# Altium footprint library 06035A6R0JAT2A.PcbLib: 3 footprints
Each footprint in its own frame and in the unit in brackets; x right, y up, seen from the top. Pads: shape width x height; smd on the part's side, far side on the other; paste and mask are expansions set on the pad; w line width, h text height; cw(c..) or ccw(c..) is an arc to the next point about the centre after c.
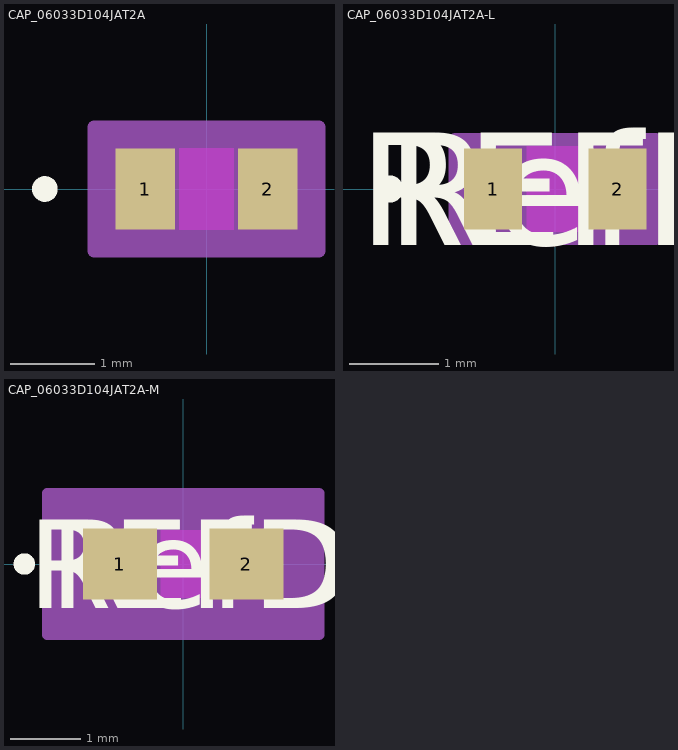
[diagram p0: the footprints below, top view; thin cyan lines are the x and y axes]

## CAP_06033D104JAT2A [mm]
pads (2):
  rect 0.703x0.96 smd paste+0 mask+0: 1(-0.727,0) 2(0.727,0)
Top Layer keep-out:
  region: -0.324,-0.429 -0.324,0.429 0.324,0.429 0.324,-0.429
Top Overlay:
  circle w0.152: c-1.916,0 r0.076
Keep-Out Layer:
  region: -0.324,-0.48 -0.324,0.48 0.324,0.48 0.324,-0.48
Mechanical 13:
  circle w0: c-0.6,0 r0.076
  lines w0.025: -0.875,-0.48 -0.875,0.48 ; -0.875,-0.48 0.875,-0.48 ; -0.875,-0.48 -0.375,-0.48 -0.375,0.48 -0.875,0.48 ; -0.875,-0.48 -0.875,0.48 ; -0.875,0.48 0.875,0.48 ; 0.875,-0.48 0.875,0.48 ; 0.875,-0.48 0.875,0.48 ; 0.875,-0.48 0.375,-0.48 0.375,0.48 0.875,0.48
Mechanical 15:
  region: 1.332,-0.734 -1.332,-0.734 -1.332,0.734 1.332,0.734
  lines w0.152: -1.332,-0.734 1.332,-0.734 1.332,0.734 -1.332,0.734 -1.332,-0.734
3D body "CAP_06033D104JAT2A.step": height 0.9, standoff 0, extent -0.875,-0.48 0.875,0.48

## CAP_06033D104JAT2A-L [mm]
pads (2):
  rect 0.652x0.909 smd paste+0 mask+0: 1(-0.701,0) 2(0.701,0)
Top Layer keep-out:
  region: -0.324,-0.429 -0.324,0.429 0.324,0.429 0.324,-0.429
Top Overlay:
  circle w0.152: c-1.866,0 r0.076
  text "RefDes" at -1.905,-0.635 h1.27
  text "REFDES" at -2.222,-0.635 h1.27
Keep-Out Layer:
  region: -0.324,-0.48 -0.324,0.48 0.324,0.48 0.324,-0.48
Mechanical 13:
  circle w0: c-0.574,0 r0.076
  lines w0.025: -0.875,-0.48 -0.875,0.48 ; -0.875,-0.48 -0.375,-0.48 -0.375,0.48 -0.875,0.48 ; -0.875,-0.48 0.875,-0.48 ; -0.875,-0.48 -0.875,0.48 ; -0.875,0.48 0.875,0.48 ; 0.875,-0.48 0.375,-0.48 0.375,0.48 0.875,0.48 ; 0.875,-0.48 0.875,0.48 ; 0.875,-0.48 0.875,0.48
  text "RefDes2" at -2.222,-0.635 h1.27
Mechanical 15:
  region: 1.129,-0.556 -1.129,-0.556 -1.129,0.556 1.129,0.556
  lines w0.152: -1.129,-0.556 -1.129,0.556 1.129,0.556 1.129,-0.556 -1.129,-0.556
3D body "CAP_06033D104JAT2A.step": height 0.9, standoff 0, extent -0.875,-0.48 0.875,0.48

## CAP_06033D104JAT2A-M [mm]
pads (2):
  rect 1.059x1.011 smd paste+0 mask+0: 1(-0.904,0) 2(0.904,0)
Top Layer keep-out:
  region: -0.324,-0.429 -0.324,0.429 0.324,0.429 0.324,-0.429
Top Overlay:
  circle w0.152: c-2.272,0 r0.076
  text "RefDes" at -1.905,-0.635 h1.27
  text "REFDES" at -2.222,-0.635 h1.27
Keep-Out Layer:
  region: -0.324,-0.48 -0.324,0.48 0.324,0.48 0.324,-0.48
Mechanical 13:
  circle w0: c-0.777,0 r0.076
  lines w0.025: -0.875,-0.48 -0.875,0.48 ; -0.875,-0.48 -0.375,-0.48 -0.375,0.48 -0.875,0.48 ; -0.875,-0.48 0.875,-0.48 ; -0.875,-0.48 -0.875,0.48 ; -0.875,0.48 0.875,0.48 ; 0.875,-0.48 0.375,-0.48 0.375,0.48 0.875,0.48 ; 0.875,-0.48 0.875,0.48 ; 0.875,-0.48 0.875,0.48
  text "RefDes2" at -2.222,-0.635 h1.27
Mechanical 15:
  region: 1.942,-1.013 -1.942,-1.013 -1.942,1.013 1.942,1.013
  lines w0.152: -1.942,-1.013 -1.942,1.013 1.942,1.013 1.942,-1.013 -1.942,-1.013
3D body "CAP_06033D104JAT2A.step": height 0.9, standoff 0, extent -0.875,-0.48 0.875,0.48